# Altium schematic symbol library SCH - CONNECTORS - HARWIN M20-9990646.Schlib: 1 symbol
Pins are listed as number, name and electrical type; pins without a type are passive.

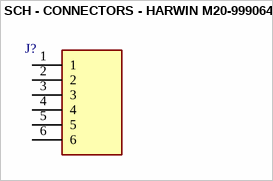
[diagram p0: symbol SCH - CONNECTORS - HARWIN M20-9990646]

## SCH - CONNECTORS - HARWIN M20-9990646
designator J?
footprint HDRV6W64P0X254_1X6_1524X254X864P
pins: 1, 2, 3, 4, 5, 6